# Altium footprint library HDR_1X11_2.54_P2.PcbLib: 1 footprints
Each footprint in its own frame and in the unit in brackets; x right, y up, seen from the top. Pads: shape width x height; smd on the part's side, far side on the other; paste and mask are expansions set on the pad; w line width, h text height; cw(c..) or ccw(c..) is an arc to the next point about the centre after c.
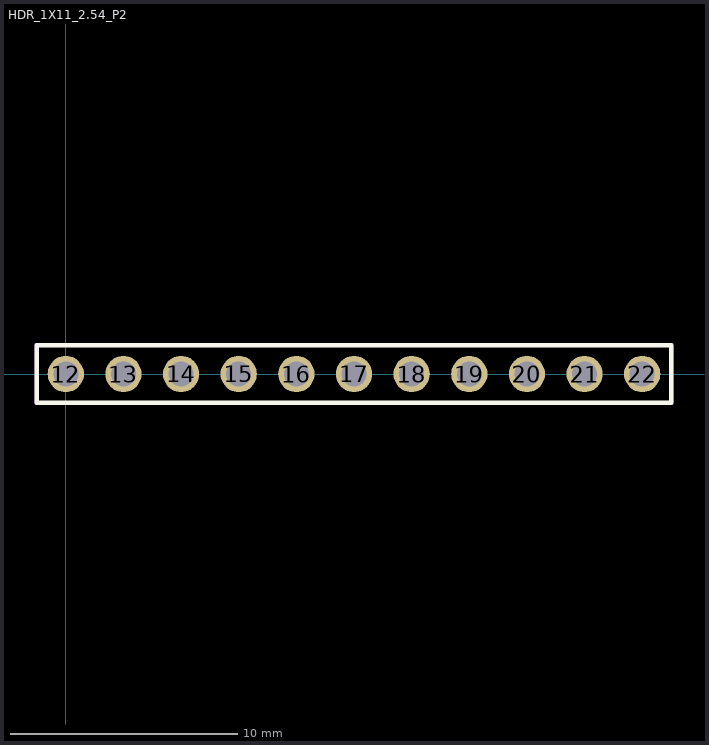
[diagram p0: the footprint, top view; thin cyan lines are the x and y axes]

## HDR_1X11_2.54_P2 [mm]
height 8.54
pads (11):
  round 1.6 hole 1.1: 12(0,0) 13(2.54,0) 14(5.08,0) 15(7.62,0) 16(10.16,0) 17(12.7,0) 18(15.24,0) 19(17.78,0) 20(20.32,0) 21(22.86,0) 22(25.4,0)
Top Overlay:
  lines w0.2: -1.27,-1.27 -1.27,1.27 0.635,1.27 26.67,1.27 26.67,-1.27 -1.27,-1.27
Mechanical 13:
  lines w0.1: -1.27,-1.27 26.67,-1.27 26.67,1.27 -1.27,1.27 -1.27,-1.27
Mechanical 15:
  lines w0.1: -1.32,-1.32 26.72,-1.32 26.72,1.32 -1.32,1.32 -1.32,-1.32
3D body: height 8.54, standoff -2.96, extent -1.27,-1.27 26.67,1.27